# Altium schematic symbol library Diode_Zener_Sch.SchLib: 3 symbols
Pins are listed as number, name and electrical type; pins without a type are passive.

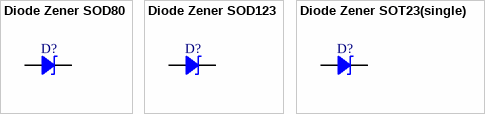
[diagram p0: symbols Diode Zener SOD80 to Diode Zener SOT23(single)]

## Diode Zener SOD80
designator D?
Zener Diode; ComponentLink1Description: Link
footprint SOD-80 MiniMELF (Molded Diode, 2-Leads, Body 3.40x1.50mm, IPC Medium Density)
pins: 1 Anode, 2 Cathode

## Diode Zener SOD123
designator D?
Zener Diode; ComponentLink1Description: Link
footprint SOD-123 (SOD, 2-Leads, Body 1.55x3.70mm, IPC Medium Density)
pins: 1 Anode, 2 Cathode

## Diode Zener SOT23(single)
designator D?
Zener Diode; Package: SOT23-3; ComponentLink1Description: Link
footprint SOT-23-3 (SOT23, 3-Leads, Body 2.90x2.40mm, Pitch 0.95mm, IPC Medium Density)
pins: 1 Anode, 3 Cathode